# Altium schematic symbol library SCH - MCU - STM32 - ST MICROELECTRONICS STM32MP135DAFX TFBGA320.SchLib: 1 symbol
Pins are listed as number, name and electrical type; pins without a type are passive.

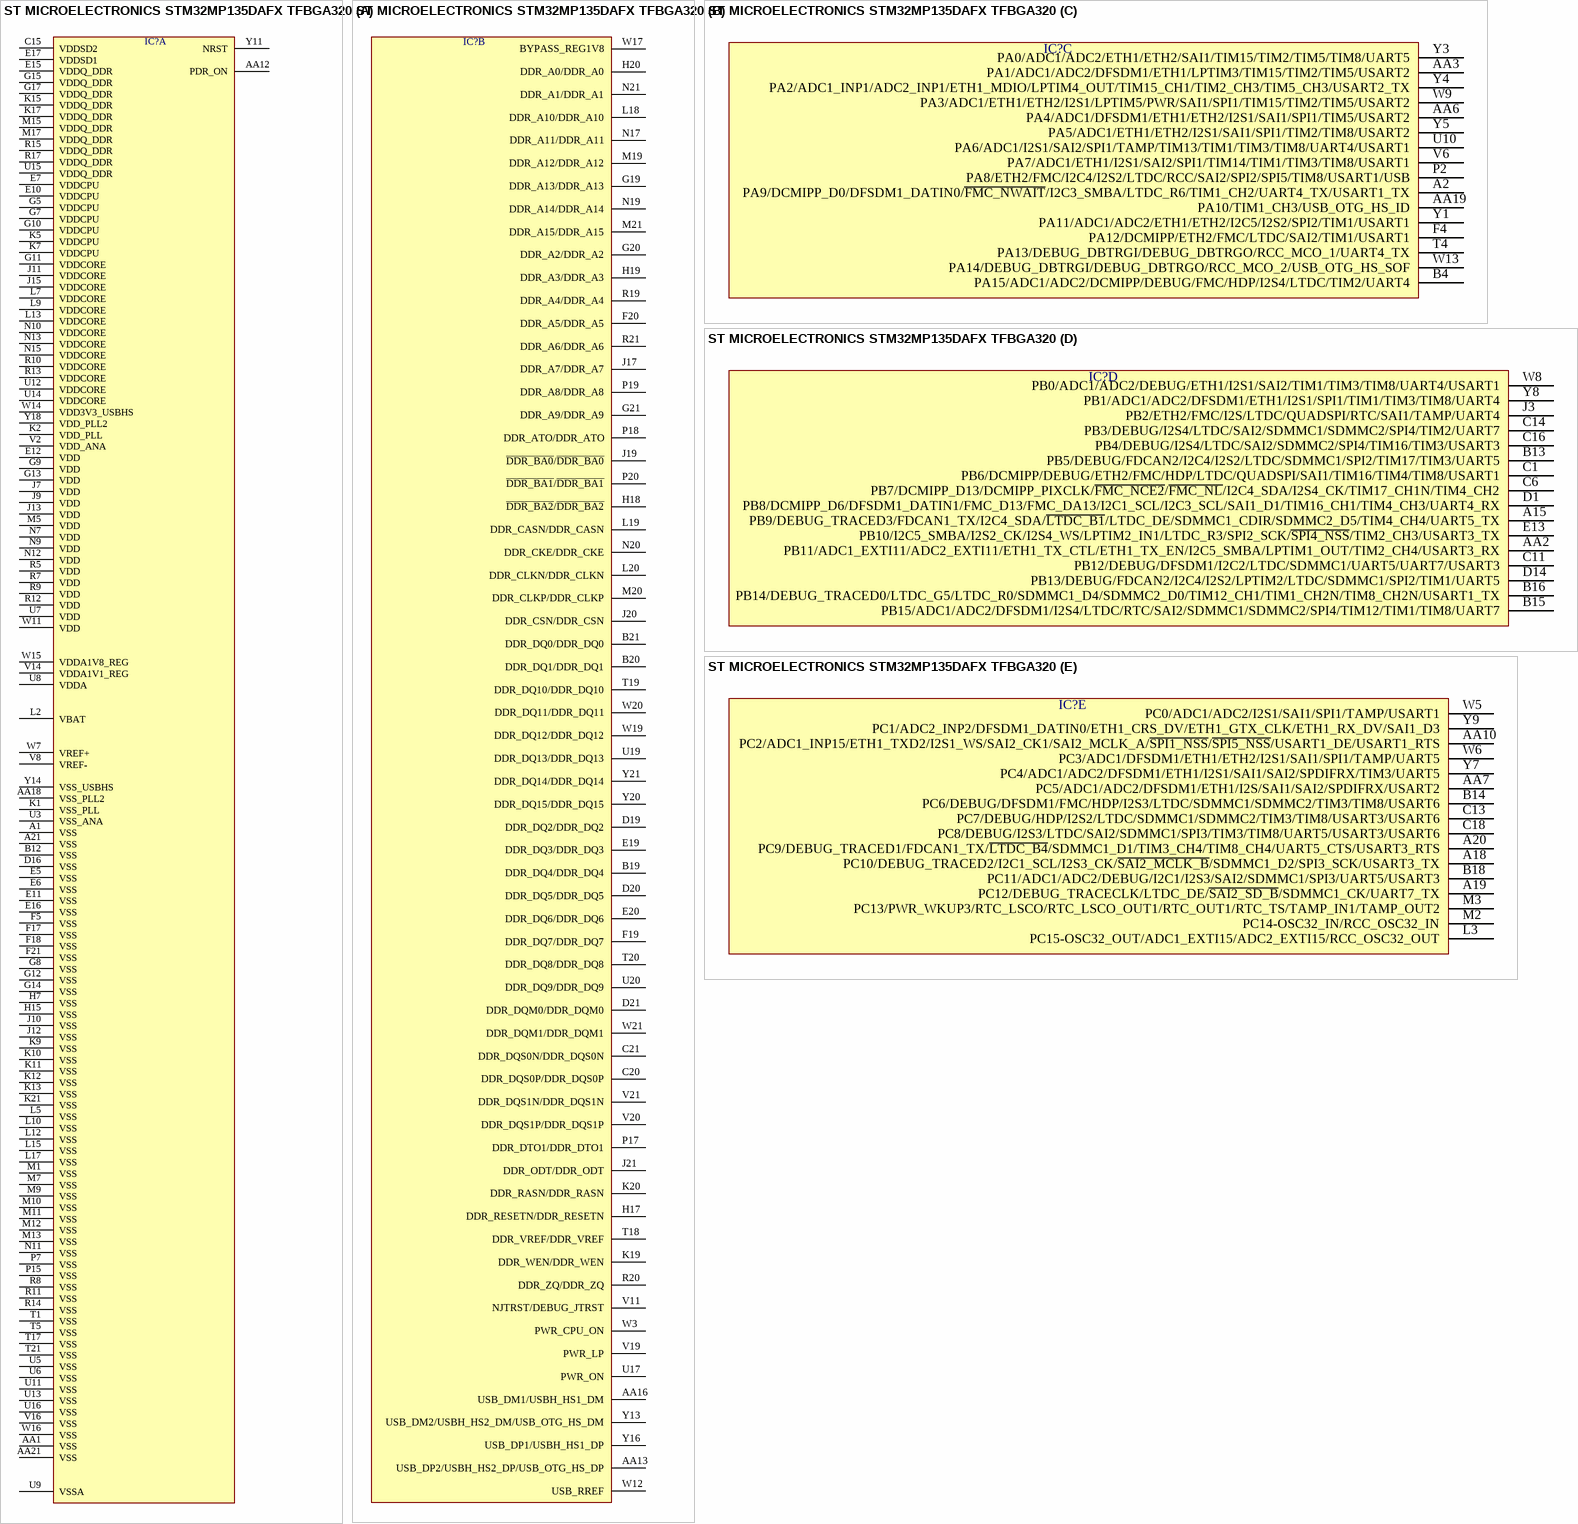
[diagram p0: symbol ST MICROELECTRONICS STM32MP135DAFX TFBGA320]

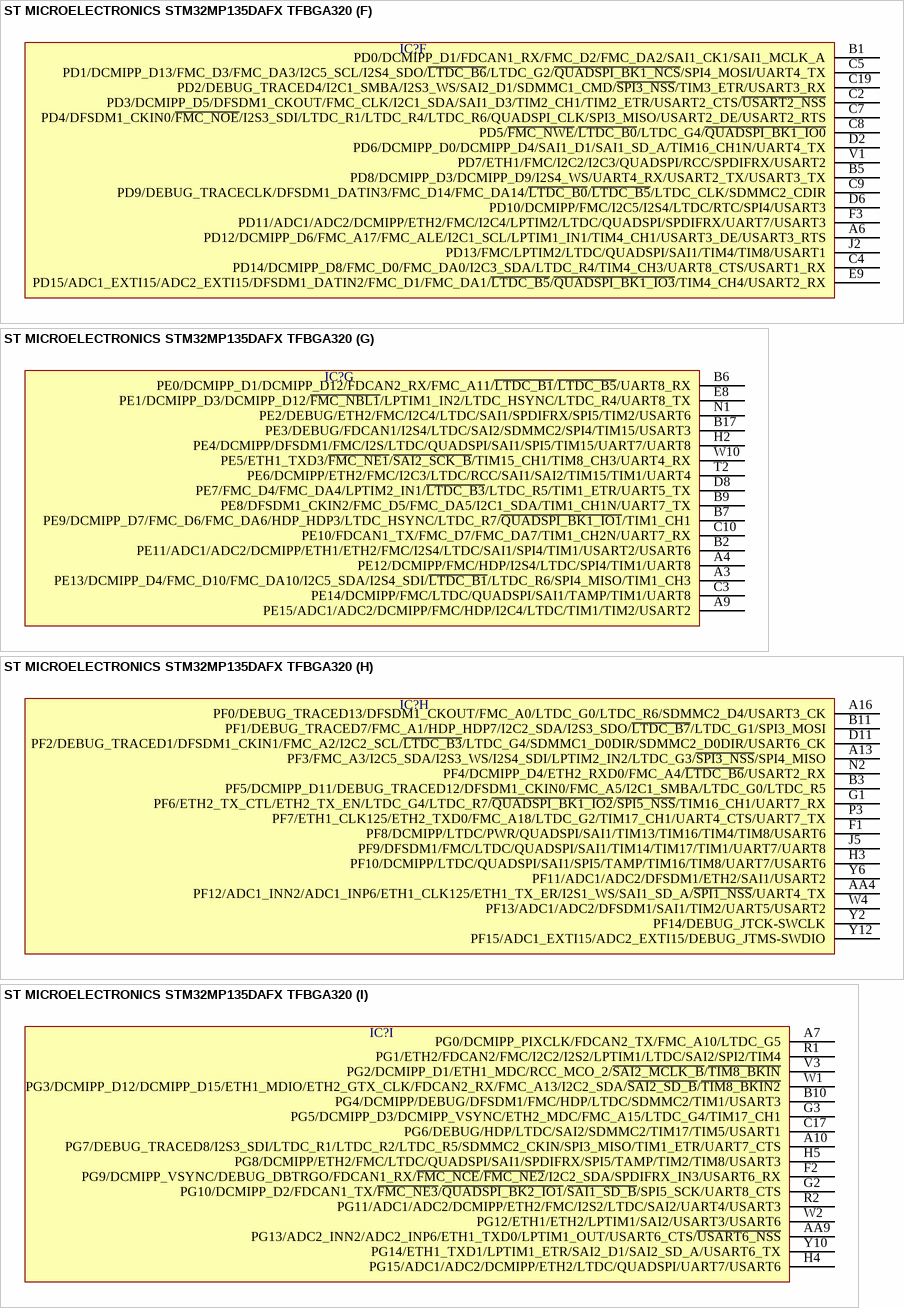
[diagram p1: symbol ST MICROELECTRONICS STM32MP135DAFX TFBGA320]

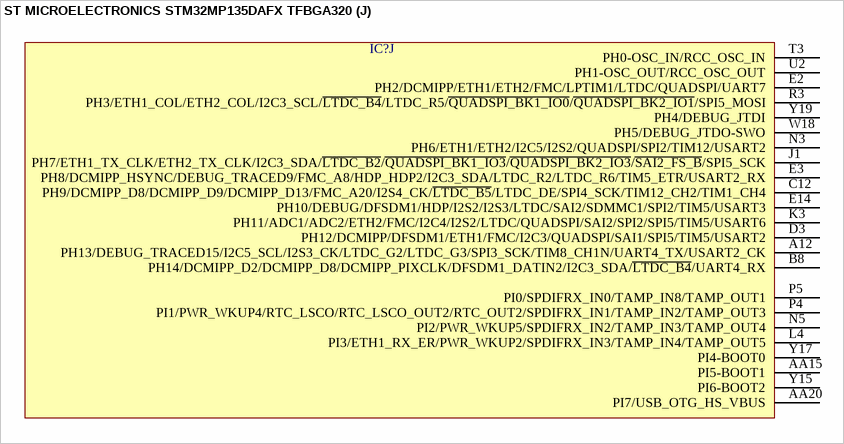
[diagram p2: symbol ST MICROELECTRONICS STM32MP135DAFX TFBGA320]

## ST MICROELECTRONICS STM32MP135DAFX TFBGA320
designator IC?  (value not drawn)
part A pins: A1 VSS, A21 VSS, AA1 VSS, AA12 PDR_ON, AA18 VSS_PLL2, AA21 VSS, B12 VSS, C15 VDDSD2, D16 VSS, E5 VSS, E6 VSS, E7 VDDCPU, E10 VDDCPU, E11 VSS, E12 VDD, E15 VDDQ_DDR, E16 VSS, E17 VDDSD1, F5 VSS, F17 VSS, F18 VSS, F21 VSS, G5 VDDCPU, G7 VDDCPU, G8 VSS, G9 VDD, G10 VDDCPU, G11 VDDCORE, G12 VSS, G13 VDD, G14 VSS, G15 VDDQ_DDR, G17 VDDQ_DDR, H7 VSS, H15 VSS, J7 VDD, J9 VDD, J10 VSS, J11 VDDCORE, J12 VSS, J13 VDD, J15 VDDCORE, K1 VSS_PLL, K2 VDD_PLL, K5 VDDCPU, K7 VDDCPU, K9 VSS, K10 VSS, K11 VSS, K12 VSS, K13 VSS, K15 VDDQ_DDR, K17 VDDQ_DDR, K21 VSS, L2 VBAT, L5 VSS, L7 VDDCORE, L9 VDDCORE, L10 VSS, L12 VSS, L13 VDDCORE, L15 VSS, L17 VSS, M1 VSS, M5 VDD, M7 VSS, M9 VSS, M10 VSS, M11 VSS, M12 VSS, M13 VSS, M15 VDDQ_DDR, M17 VDDQ_DDR, N7 VDD, N9 VDD, N10 VDDCORE, N11 VSS, N12 VDD, N13 VDDCORE, N15 VDDCORE, P7 VSS, P15 VSS, R5 VDD, R7 VDD, R8 VSS, R9 VDD, R10 VDDCORE, R11 VSS, R12 VDD, R13 VDDCORE, R14 VSS, R15 VDDQ_DDR, R17 VDDQ_DDR, T1 VSS, T5 VSS, T17 VSS, T21 VSS, U3 VSS_ANA, U5 VSS, U6 VSS, U7 VDD, U8 VDDA, U9 VSSA, U11 VSS, U12 VDDCORE, U13 VSS, U14 VDDCORE, U15 VDDQ_DDR, U16 VSS, V2 VDD_ANA, V8 VREF-, V14 VDDA1V1_REG, V16 VSS, W7 VREF+, W11 VDD, W14 VDD3V3_USBHS, W15 VDDA1V8_REG, W16 VSS, Y11 NRST, Y14 VSS_USBHS, Y18 VDD_PLL2
part B pins: AA13 USB_DP2/USBH_HS2_DP/USB_OTG_HS_DP, AA16 USB_DM1/USBH_HS1_DM, B19 DDR_DQ4/DDR_DQ4, B20 DDR_DQ1/DDR_DQ1, B21 DDR_DQ0/DDR_DQ0, C20 DDR_DQS0P/DDR_DQS0P, C21 DDR_DQS0N/DDR_DQS0N, D19 DDR_DQ2/DDR_DQ2, D20 DDR_DQ5/DDR_DQ5, D21 DDR_DQM0/DDR_DQM0, E19 DDR_DQ3/DDR_DQ3, E20 DDR_DQ6/DDR_DQ6, F19 DDR_DQ7/DDR_DQ7, F20 DDR_A5/DDR_A5, G19 DDR_A13/DDR_A13, G20 DDR_A2/DDR_A2, G21 DDR_A9/DDR_A9, H17 DDR_RESETN/DDR_RESETN, H18 ~{DDR_BA2}/~{DDR_BA2}, H19 DDR_A3/DDR_A3, H20 DDR_A0/DDR_A0, J17 DDR_A7/DDR_A7, J19 ~{DDR_BA0}/~{DDR_BA0}, J20 DDR_CSN/DDR_CSN, J21 DDR_ODT/DDR_ODT, K19 DDR_WEN/DDR_WEN, K20 DDR_RASN/DDR_RASN, L18 DDR_A10/DDR_A10, L19 DDR_CASN/DDR_CASN, L20 DDR_CLKN/DDR_CLKN, M19 DDR_A12/DDR_A12, M20 DDR_CLKP/DDR_CLKP, M21 DDR_A15/DDR_A15, N17 DDR_A11/DDR_A11, N19 DDR_A14/DDR_A14, N20 DDR_CKE/DDR_CKE, N21 DDR_A1/DDR_A1, P17 DDR_DTO1/DDR_DTO1, P18 DDR_ATO/DDR_ATO, P19 DDR_A8/DDR_A8, P20 ~{DDR_BA1}/~{DDR_BA1}, R19 DDR_A4/DDR_A4, R20 DDR_ZQ/DDR_ZQ, R21 DDR_A6/DDR_A6, T18 DDR_VREF/DDR_VREF, T19 DDR_DQ10/DDR_DQ10, T20 DDR_DQ8/DDR_DQ8, U17 PWR_ON, U19 DDR_DQ13/DDR_DQ13, U20 DDR_DQ9/DDR_DQ9, V11 NJTRST/DEBUG_JTRST, V19 PWR_LP, V20 DDR_DQS1P/DDR_DQS1P, V21 DDR_DQS1N/DDR_DQS1N, W3 PWR_CPU_ON, W12 USB_RREF, W17 BYPASS_REG1V8, W19 DDR_DQ12/DDR_DQ12, W20 DDR_DQ11/DDR_DQ11, W21 DDR_DQM1/DDR_DQM1, Y13 USB_DM2/USBH_HS2_DM/USB_OTG_HS_DM, Y16 USB_DP1/USBH_HS1_DP, Y20 DDR_DQ15/DDR_DQ15, Y21 DDR_DQ14/DDR_DQ14
part C pins: A2 PA9/DCMIPP_D0/DFSDM1_DATIN0/~{FMC_NWAIT}/I2C3_SMBA/LTDC_R6/TIM1_CH2/UART4_TX/USART1_TX, AA3 PA1/ADC1/ADC2/DFSDM1/ETH1/LPTIM3/TIM15/TIM2/TIM5/USART2, AA6 PA4/ADC1/DFSDM1/ETH1/ETH2/I2S1/SAI1/SPI1/TIM5/USART2, AA19 PA10/TIM1_CH3/USB_OTG_HS_ID, B4 PA15/ADC1/ADC2/DCMIPP/DEBUG/FMC/HDP/I2S4/LTDC/TIM2/UART4, F4 PA12/DCMIPP/ETH2/FMC/LTDC/SAI2/TIM1/USART1, P2 PA8/ETH2/FMC/I2C4/I2S2/LTDC/RCC/SAI2/SPI2/SPI5/TIM8/USART1/USB, T4 PA13/DEBUG_DBTRGI/DEBUG_DBTRGO/RCC_MCO_1/UART4_TX, U10 PA6/ADC1/I2S1/SAI2/SPI1/TAMP/TIM13/TIM1/TIM3/TIM8/UART4/USART1, V6 PA7/ADC1/ETH1/I2S1/SAI2/SPI1/TIM14/TIM1/TIM3/TIM8/USART1, W9 PA3/ADC1/ETH1/ETH2/I2S1/LPTIM5/PWR/SAI1/SPI1/TIM15/TIM2/TIM5/USART2, W13 PA14/DEBUG_DBTRGI/DEBUG_DBTRGO/RCC_MCO_2/USB_OTG_HS_SOF, Y1 PA11/ADC1/ADC2/ETH1/ETH2/I2C5/I2S2/SPI2/TIM1/USART1, Y3 PA0/ADC1/ADC2/ETH1/ETH2/SAI1/TIM15/TIM2/TIM5/TIM8/UART5, Y4 PA2/ADC1_INP1/ADC2_INP1/ETH1_MDIO/LPTIM4_OUT/TIM15_CH1/TIM2_CH3/TIM5_CH3/USART2_TX, Y5 PA5/ADC1/ETH1/ETH2/I2S1/SAI1/SPI1/TIM2/TIM8/USART2
part D pins: A15 PB9/DEBUG_TRACED3/FDCAN1_TX/I2C4_SDA/~{LTDC_B1}/LTDC_DE/SDMMC1_CDIR/SDMMC2_D5/TIM4_CH4/UART5_TX, AA2 PB11/ADC1_EXTI11/ADC2_EXTI11/ETH1_TX_CTL/ETH1_TX_EN/I2C5_SMBA/LPTIM1_OUT/TIM2_CH4/USART3_RX, B13 PB5/DEBUG/FDCAN2/I2C4/I2S2/LTDC/SDMMC1/SPI2/TIM17/TIM3/UART5, B15 PB15/ADC1/ADC2/DFSDM1/I2S4/LTDC/RTC/SAI2/SDMMC1/SDMMC2/SPI4/TIM12/TIM1/TIM8/UART7, B16 PB14/DEBUG_TRACED0/LTDC_G5/LTDC_R0/SDMMC1_D4/SDMMC2_D0/TIM12_CH1/TIM1_CH2N/TIM8_CH2N/USART1_TX, C1 PB6/DCMIPP/DEBUG/ETH2/FMC/HDP/LTDC/QUADSPI/SAI1/TIM16/TIM4/TIM8/USART1, C6 PB7/DCMIPP_D13/DCMIPP_PIXCLK/~{FMC_NCE2}/~{FMC_NL}/I2C4_SDA/I2S4_CK/TIM17_CH1N/TIM4_CH2, C11 PB12/DEBUG/DFSDM1/I2C2/LTDC/SDMMC1/UART5/UART7/USART3, C14 PB3/DEBUG/I2S4/LTDC/SAI2/SDMMC1/SDMMC2/SPI4/TIM2/UART7, C16 PB4/DEBUG/I2S4/LTDC/SAI2/SDMMC2/SPI4/TIM16/TIM3/USART3, D1 PB8/DCMIPP_D6/DFSDM1_DATIN1/FMC_D13/FMC_DA13/I2C1_SCL/I2C3_SCL/SAI1_D1/TIM16_CH1/TIM4_CH3/UART4_RX, D14 PB13/DEBUG/FDCAN2/I2C4/I2S2/LPTIM2/LTDC/SDMMC1/SPI2/TIM1/UART5, E13 PB10/I2C5_SMBA/I2S2_CK/I2S4_WS/LPTIM2_IN1/LTDC_R3/SPI2_SCK/~{SPI4_NSS}/TIM2_CH3/USART3_TX, J3 PB2/ETH2/FMC/I2S/LTDC/QUADSPI/RTC/SAI1/TAMP/UART4, W8 PB0/ADC1/ADC2/DEBUG/ETH1/I2S1/SAI2/TIM1/TIM3/TIM8/UART4/USART1, Y8 PB1/ADC1/ADC2/DFSDM1/ETH1/I2S1/SPI1/TIM1/TIM3/TIM8/UART4
part E pins: A18 PC10/DEBUG_TRACED2/I2C1_SCL/I2S3_CK/~{SAI2_MCLK_B}/SDMMC1_D2/SPI3_SCK/USART3_TX, A19 PC12/DEBUG_TRACECLK/LTDC_DE/~{SAI2_SD_B}/SDMMC1_CK/UART7_TX, A20 PC9/DEBUG_TRACED1/FDCAN1_TX/~{LTDC_B4}/SDMMC1_D1/TIM3_CH4/TIM8_CH4/UART5_CTS/USART3_RTS, AA7 PC5/ADC1/ADC2/DFSDM1/ETH1/I2S/SAI1/SAI2/SPDIFRX/USART2, AA10 PC2/ADC1_INP15/ETH1_TXD2/I2S1_WS/SAI2_CK1/SAI2_MCLK_A/~{SPI1_NSS}/~{SPI5_NSS}/USART1_DE/USART1_RTS, B14 PC6/DEBUG/DFSDM1/FMC/HDP/I2S3/LTDC/SDMMC1/SDMMC2/TIM3/TIM8/USART6, B18 PC11/ADC1/ADC2/DEBUG/I2C1/I2S3/SAI2/SDMMC1/SPI3/UART5/USART3, C13 PC7/DEBUG/HDP/I2S2/LTDC/SDMMC1/SDMMC2/TIM3/TIM8/USART3/USART6, C18 PC8/DEBUG/I2S3/LTDC/SAI2/SDMMC1/SPI3/TIM3/TIM8/UART5/USART3/USART6, L3 PC15-OSC32_OUT/ADC1_EXTI15/ADC2_EXTI15/RCC_OSC32_OUT, M2 PC14-OSC32_IN/RCC_OSC32_IN, M3 PC13/PWR_WKUP3/RTC_LSCO/RTC_LSCO_OUT1/RTC_OUT1/RTC_TS/TAMP_IN1/TAMP_OUT2, W5 PC0/ADC1/ADC2/I2S1/SAI1/SPI1/TAMP/USART1, W6 PC3/ADC1/DFSDM1/ETH1/ETH2/I2S1/SAI1/SPI1/TAMP/UART5, Y7 PC4/ADC1/ADC2/DFSDM1/ETH1/I2S1/SAI1/SAI2/SPDIFRX/TIM3/UART5, Y9 PC1/ADC2_INP2/DFSDM1_DATIN0/ETH1_CRS_DV/ETH1_GTX_CLK/ETH1_RX_DV/SAI1_D3
part F pins: A6 PD12/DCMIPP_D6/FMC_A17/FMC_ALE/I2C1_SCL/LPTIM1_IN1/TIM4_CH1/USART3_DE/USART3_RTS, B1 PD0/DCMIPP_D1/FDCAN1_RX/FMC_D2/FMC_DA2/SAI1_CK1/SAI1_MCLK_A, B5 PD8/DCMIPP_D3/DCMIPP_D9/I2S4_WS/UART4_RX/USART2_TX/USART3_TX, C2 PD3/DCMIPP_D5/DFSDM1_CKOUT/FMC_CLK/I2C1_SDA/SAI1_D3/TIM2_CH1/TIM2_ETR/USART2_CTS/~{USART2_NSS}, C4 PD14/DCMIPP_D8/FMC_D0/FMC_DA0/I2C3_SDA/LTDC_R4/TIM4_CH3/UART8_CTS/USART1_RX, C5 PD1/DCMIPP_D13/FMC_D3/FMC_DA3/I2C5_SCL/I2S4_SDO/~{LTDC_B6}/LTDC_G2/~{QUADSPI_BK1_NCS}/SPI4_MOSI/UART4_TX, C7 PD4/DFSDM1_CKIN0/~{FMC_NOE}/I2S3_SDI/LTDC_R1/LTDC_R4/LTDC_R6/QUADSPI_CLK/SPI3_MISO/USART2_DE/USART2_RTS, C8 PD5/~{FMC_NWE}/~{LTDC_B0}/LTDC_G4/~{QUADSPI_BK1_IO0}, C9 PD9/DEBUG_TRACECLK/DFSDM1_DATIN3/FMC_D14/FMC_DA14/~{LTDC_B0}/~{LTDC_B5}/LTDC_CLK/SDMMC2_CDIR, C19 PD2/DEBUG_TRACED4/I2C1_SMBA/I2S3_WS/SAI2_D1/SDMMC1_CMD/~{SPI3_NSS}/TIM3_ETR/USART3_RX, D2 PD6/DCMIPP_D0/DCMIPP_D4/SAI1_D1/SAI1_SD_A/TIM16_CH1N/UART4_TX, D6 PD10/DCMIPP/FMC/I2C5/I2S4/LTDC/RTC/SPI4/USART3, E9 PD15/ADC1_EXTI15/ADC2_EXTI15/DFSDM1_DATIN2/FMC_D1/FMC_DA1/~{LTDC_B5}/~{QUADSPI_BK1_IO3}/TIM4_CH4/USART2_RX, F3 PD11/ADC1/ADC2/DCMIPP/ETH2/FMC/I2C4/LPTIM2/LTDC/QUADSPI/SPDIFRX/UART7/USART3, J2 PD13/FMC/LPTIM2/LTDC/QUADSPI/SAI1/TIM4/TIM8/USART1, V1 PD7/ETH1/FMC/I2C2/I2C3/QUADSPI/RCC/SPDIFRX/USART2
part G pins: A3 PE13/DCMIPP_D4/FMC_D10/FMC_DA10/I2C5_SDA/I2S4_SDI/~{LTDC_B1}/LTDC_R6/SPI4_MISO/TIM1_CH3, A4 PE12/DCMIPP/FMC/HDP/I2S4/LTDC/SPI4/TIM1/UART8, A9 PE15/ADC1/ADC2/DCMIPP/FMC/HDP/I2C4/LTDC/TIM1/TIM2/USART2, B2 PE11/ADC1/ADC2/DCMIPP/ETH1/ETH2/FMC/I2S4/LTDC/SAI1/SPI4/TIM1/USART2/USART6, B6 PE0/DCMIPP_D1/DCMIPP_D12/FDCAN2_RX/FMC_A11/~{LTDC_B1}/~{LTDC_B5}/UART8_RX, B7 PE9/DCMIPP_D7/FMC_D6/FMC_DA6/HDP_HDP3/LTDC_HSYNC/LTDC_R7/~{QUADSPI_BK1_IO1}/TIM1_CH1, B9 PE8/DFSDM1_CKIN2/FMC_D5/FMC_DA5/I2C1_SDA/TIM1_CH1N/UART7_TX, B17 PE3/DEBUG/FDCAN1/I2S4/LTDC/SAI2/SDMMC2/SPI4/TIM15/USART3, C3 PE14/DCMIPP/FMC/LTDC/QUADSPI/SAI1/TAMP/TIM1/UART8, C10 PE10/FDCAN1_TX/FMC_D7/FMC_DA7/TIM1_CH2N/UART7_RX, D8 PE7/FMC_D4/FMC_DA4/LPTIM2_IN1/~{LTDC_B3}/LTDC_R5/TIM1_ETR/UART5_TX, E8 PE1/DCMIPP_D3/DCMIPP_D12/~{FMC_NBL1}/LPTIM1_IN2/LTDC_HSYNC/LTDC_R4/UART8_TX, H2 PE4/DCMIPP/DFSDM1/FMC/I2S/LTDC/QUADSPI/SAI1/SPI5/TIM15/UART7/UART8, N1 PE2/DEBUG/ETH2/FMC/I2C4/LTDC/SAI1/SPDIFRX/SPI5/TIM2/USART6, T2 PE6/DCMIPP/ETH2/FMC/I2C3/LTDC/RCC/SAI1/SAI2/TIM15/TIM1/UART4, W10 PE5/ETH1_TXD3/~{FMC_NE1}/~{SAI2_SCK_B}/TIM15_CH1/TIM8_CH3/UART4_RX
part H pins: A13 PF3/FMC_A3/I2C5_SDA/I2S3_WS/I2S4_SDI/LPTIM2_IN2/LTDC_G3/~{SPI3_NSS}/SPI4_MISO, A16 PF0/DEBUG_TRACED13/DFSDM1_CKOUT/FMC_A0/LTDC_G0/LTDC_R6/SDMMC2_D4/USART3_CK, AA4 PF12/ADC1_INN2/ADC1_INP6/ETH1_CLK125/ETH1_TX_ER/I2S1_WS/SAI1_SD_A/~{SPI1_NSS}/UART4_TX, B3 PF5/DCMIPP_D11/DEBUG_TRACED12/DFSDM1_CKIN0/FMC_A5/I2C1_SMBA/LTDC_G0/LTDC_R5, B11 PF1/DEBUG_TRACED7/FMC_A1/HDP_HDP7/I2C2_SDA/I2S3_SDO/~{LTDC_B7}/LTDC_G1/SPI3_MOSI, D11 PF2/DEBUG_TRACED1/DFSDM1_CKIN1/FMC_A2/I2C2_SCL/~{LTDC_B3}/LTDC_G4/SDMMC1_D0DIR/SDMMC2_D0DIR/USART6_CK, F1 PF8/DCMIPP/LTDC/PWR/QUADSPI/SAI1/TIM13/TIM16/TIM4/TIM8/USART6, G1 PF6/ETH2_TX_CTL/ETH2_TX_EN/LTDC_G4/LTDC_R7/~{QUADSPI_BK1_IO2}/~{SPI5_NSS}/TIM16_CH1/UART7_RX, H3 PF10/DCMIPP/LTDC/QUADSPI/SAI1/SPI5/TAMP/TIM16/TIM8/UART7/USART6, J5 PF9/DFSDM1/FMC/LTDC/QUADSPI/SAI1/TIM14/TIM17/TIM1/UART7/UART8, N2 PF4/DCMIPP_D4/ETH2_RXD0/FMC_A4/~{LTDC_B6}/USART2_RX, P3 PF7/ETH1_CLK125/ETH2_TXD0/FMC_A18/LTDC_G2/TIM17_CH1/UART4_CTS/UART7_TX, W4 PF13/ADC1/ADC2/DFSDM1/SAI1/TIM2/UART5/USART2, Y2 PF14/DEBUG_JTCK-SWCLK, Y6 PF11/ADC1/ADC2/DFSDM1/ETH2/SAI1/USART2, Y12 PF15/ADC1_EXTI15/ADC2_EXTI15/DEBUG_JTMS-SWDIO
part I pins: A7 PG0/DCMIPP_PIXCLK/FDCAN2_TX/FMC_A10/LTDC_G5, A10 PG7/DEBUG_TRACED8/I2S3_SDI/LTDC_R1/LTDC_R2/LTDC_R5/SDMMC2_CKIN/SPI3_MISO/TIM1_ETR/UART7_CTS, AA9 PG13/ADC2_INN2/ADC2_INP6/ETH1_TXD0/LPTIM1_OUT/USART6_CTS/~{USART6_NSS}, B10 PG4/DCMIPP/DEBUG/DFSDM1/FMC/HDP/LTDC/SDMMC2/TIM1/USART3, C17 PG6/DEBUG/HDP/LTDC/SAI2/SDMMC2/TIM17/TIM5/USART1, F2 PG9/DCMIPP_VSYNC/DEBUG_DBTRGO/FDCAN1_RX/~{FMC_NCE}/~{FMC_NE2}/I2C2_SDA/SPDIFRX_IN3/USART6_RX, G2 PG10/DCMIPP_D2/FDCAN1_TX/~{FMC_NE3}/~{QUADSPI_BK2_IO1}/~{SAI1_SD_B}/SPI5_SCK/UART8_CTS, G3 PG5/DCMIPP_D3/DCMIPP_VSYNC/ETH2_MDC/FMC_A15/LTDC_G4/TIM17_CH1, H4 PG15/ADC1/ADC2/DCMIPP/ETH2/LTDC/QUADSPI/UART7/USART6, H5 PG8/DCMIPP/ETH2/FMC/LTDC/QUADSPI/SAI1/SPDIFRX/SPI5/TAMP/TIM2/TIM8/USART3, R1 PG1/ETH2/FDCAN2/FMC/I2C2/I2S2/LPTIM1/LTDC/SAI2/SPI2/TIM4, R2 PG11/ADC1/ADC2/DCMIPP/ETH2/FMC/I2S2/LTDC/SAI2/UART4/USART3, V3 PG2/DCMIPP_D1/ETH1_MDC/RCC_MCO_2/~{SAI2_MCLK_B}/~{TIM8_BKIN}, W1 PG3/DCMIPP_D12/DCMIPP_D15/ETH1_MDIO/ETH2_GTX_CLK/FDCAN2_RX/FMC_A13/I2C2_SDA/~{SAI2_SD_B}/~{TIM8_BKIN2}, W2 PG12/ETH1/ETH2/LPTIM1/SAI2/USART3/USART6, Y10 PG14/ETH1_TXD1/LPTIM1_ETR/SAI2_D1/SAI2_SD_A/USART6_TX
part J pins: A12 PH13/DEBUG_TRACED15/I2C5_SCL/I2S3_CK/LTDC_G2/LTDC_G3/SPI3_SCK/TIM8_CH1N/UART4_TX/USART2_CK, AA15 PI5-BOOT1, AA20 PI7/USB_OTG_HS_VBUS, B8 PH14/DCMIPP_D2/DCMIPP_D8/DCMIPP_PIXCLK/DFSDM1_DATIN2/I2C3_SDA/~{LTDC_B4}/UART4_RX, C12 PH9/DCMIPP_D8/DCMIPP_D9/DCMIPP_D13/FMC_A20/I2S4_CK/~{LTDC_B5}/LTDC_DE/SPI4_SCK/TIM12_CH2/TIM1_CH4, D3 PH12/DCMIPP/DFSDM1/ETH1/FMC/I2C3/QUADSPI/SAI1/SPI5/TIM5/USART2, E2 PH2/DCMIPP/ETH1/ETH2/FMC/LPTIM1/LTDC/QUADSPI/UART7, E3 PH8/DCMIPP_HSYNC/DEBUG_TRACED9/FMC_A8/HDP_HDP2/I2C3_SDA/LTDC_R2/LTDC_R6/TIM5_ETR/USART2_RX, E14 PH10/DEBUG/DFSDM1/HDP/I2S2/I2S3/LTDC/SAI2/SDMMC1/SPI2/TIM5/USART3, J1 PH7/ETH1_TX_CLK/ETH2_TX_CLK/I2C3_SDA/~{LTDC_B2}/~{QUADSPI_BK1_IO3}/~{QUADSPI_BK2_IO3}/~{SAI2_FS_B}/SPI5_SCK, K3 PH11/ADC1/ADC2/ETH2/FMC/I2C4/I2S2/LTDC/QUADSPI/SAI2/SPI2/SPI5/TIM5/USART6, L4 PI3/ETH1_RX_ER/PWR_WKUP2/SPDIFRX_IN3/TAMP_IN4/TAMP_OUT5, N3 PH6/ETH1/ETH2/I2C5/I2S2/QUADSPI/SPI2/TIM12/USART2, N5 PI2/PWR_WKUP5/SPDIFRX_IN2/TAMP_IN3/TAMP_OUT4, P4 PI1/PWR_WKUP4/RTC_LSCO/RTC_LSCO_OUT2/RTC_OUT2/SPDIFRX_IN1/TAMP_IN2/TAMP_OUT3, P5 PI0/SPDIFRX_IN0/TAMP_IN8/TAMP_OUT1, R3 PH3/ETH1_COL/ETH2_COL/I2C3_SCL/~{LTDC_B4}/LTDC_R5/~{QUADSPI_BK1_IO0}/~{QUADSPI_BK2_IO1}/SPI5_MOSI, T3 PH0-OSC_IN/RCC_OSC_IN, U2 PH1-OSC_OUT/RCC_OSC_OUT, W18 PH5/DEBUG_JTDO-SWO, Y15 PI6-BOOT2, Y17 PI4-BOOT0, Y19 PH4/DEBUG_JTDI